# Altium footprint library PCB库.PcbLib: 36 footprints (part 2 of 3)
Each footprint in its own frame and in the unit in brackets; x right, y up, seen from the top. Pads: shape width x height; smd on the part's side, far side on the other; paste and mask are expansions set on the pad; w line width, h text height; cw(c..) or ccw(c..) is an arc to the next point about the centre after c.
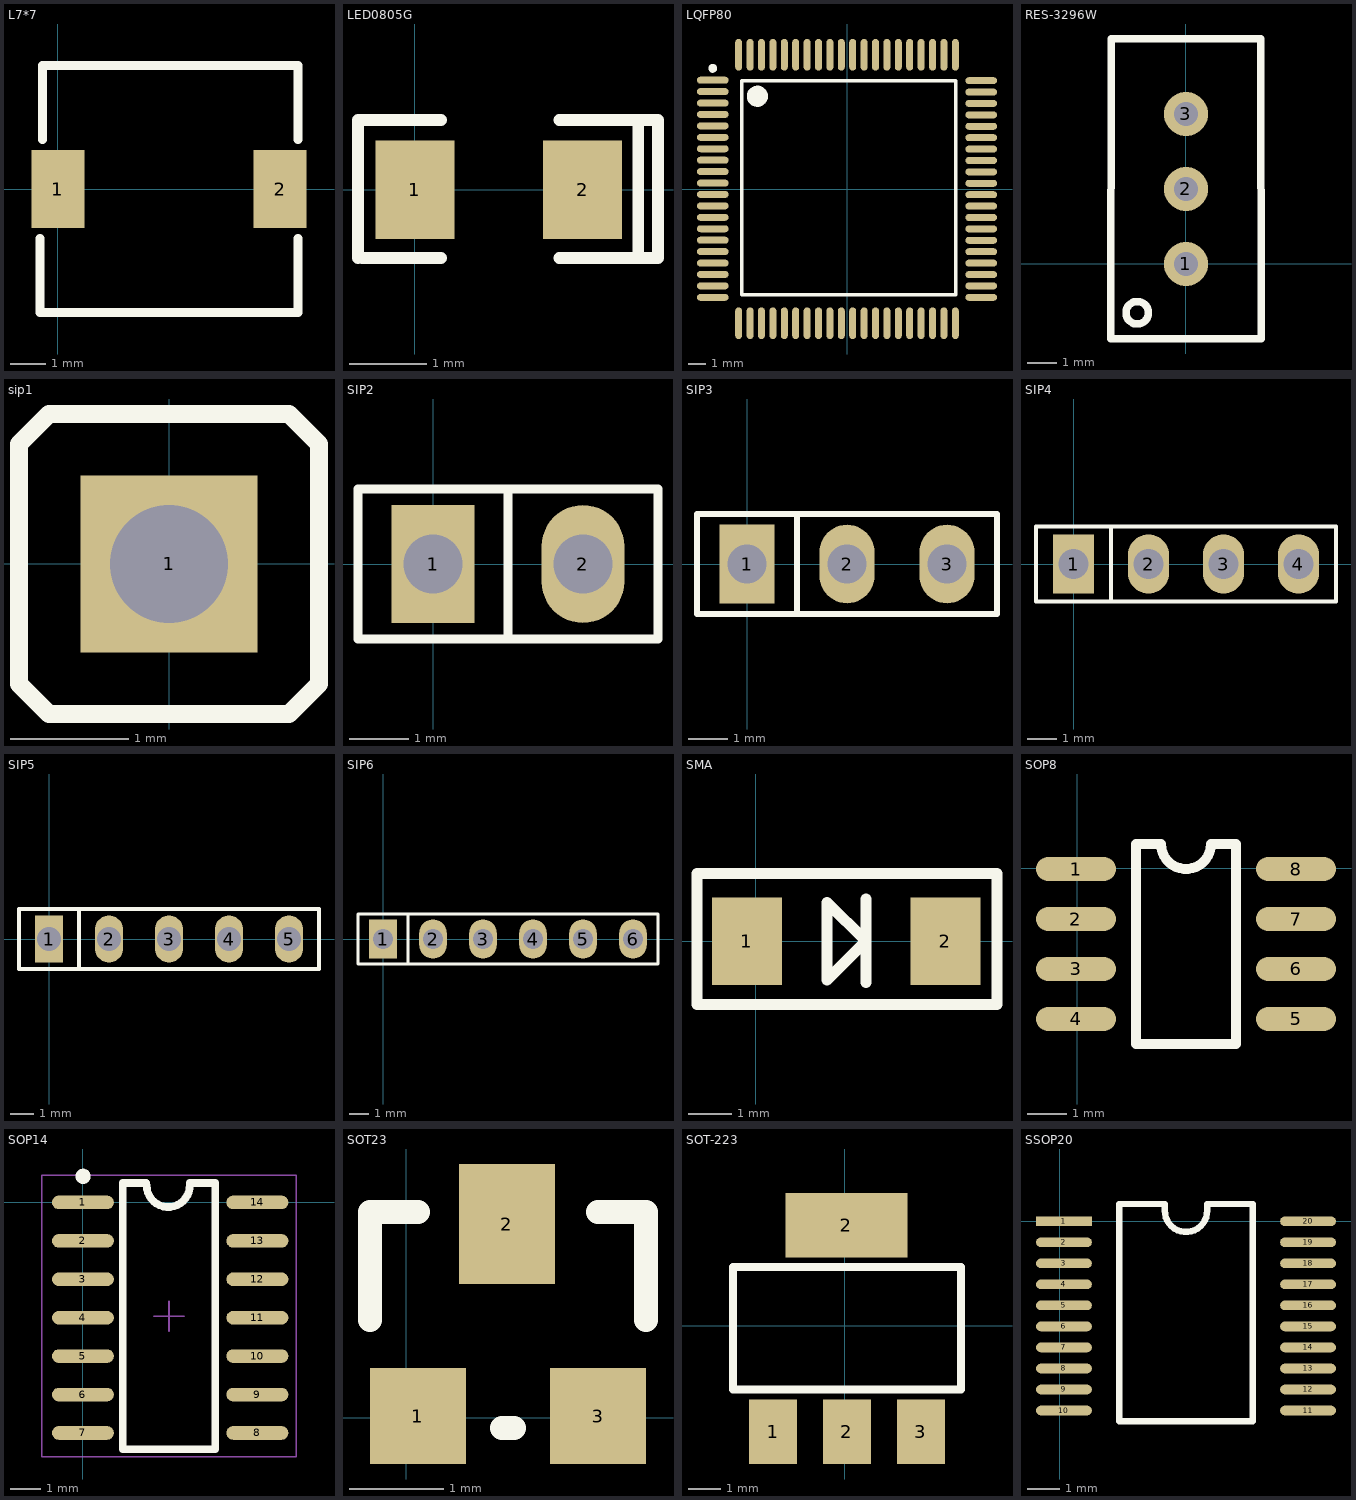
[diagram p1: the footprints below, top view; thin cyan lines are the x and y axes]

## L7*7 [mm]
pads (2):
  rect 1.5x2.2 smd: 1(0,0) 2(6.3,0)
Top Overlay:
  lines w0.254: -0.5,-1.397 -0.5,-3.5 6.8,-3.5 6.8,-1.397 ; -0.437,1.397 -0.437,3.5 6.8,3.5 6.8,1.397

## LED0805G [mil]
pads (2):
  rect 40x50 smd: 1(0,0) 2(85,0)
Top Overlay:
  lines w5.98: 113.15,-34.61 123.15,-34.61 ; 113.15,35.39 123.15,35.39
  lines w6: -28.86,-34.61 -28.86,35.39 13.15,35.39 ; -26.85,-34.61 13.15,-34.61 ; 73.15,-34.61 113.15,-34.61 113.15,35.39 73.15,35.39 ; 123.15,-34.61 123.15,35.39
3D body "User Library-User Library-led_0805 GRE.STEP": height 43.31, standoff 0, extent 3.39,-24.21 82.91,25

## LQFP80 [mm]
pads (80):
  oval 1.8x0.4 smd: 1(-7.65,6.202) 2(-7.65,5.551) 3(-7.65,4.899) 4(-7.65,4.248) 5(-7.65,3.596) 6(-7.65,2.945) 7(-7.65,2.294) 8(-7.65,1.642) 9(-7.65,0.991) 10(-7.65,0.339) 11(-7.65,-0.312) 12(-7.65,-0.964) 13(-7.65,-1.615) 14(-7.65,-2.266) 15(-7.65,-2.918) 16(-7.65,-3.569) 17(-7.65,-4.221) 18(-7.65,-4.872) 19(-7.65,-5.524) 20(-7.65,-6.175) 41(7.65,-6.175) 42(7.65,-5.525) 43(7.65,-4.875) 44(7.65,-4.225) 45(7.65,-3.575) 46(7.65,-2.925) 47(7.65,-2.275) 48(7.65,-1.625) 49(7.65,-0.975) 50(7.65,-0.325) 51(7.65,0.325) 52(7.65,0.975) 53(7.65,1.625) 54(7.65,2.275) 55(7.65,2.925) 56(7.65,3.575) 57(7.65,4.225) 58(7.65,4.875) 59(7.65,5.525) 60(7.65,6.175)
  oval 0.4x1.8 smd: 21(-6.175,-7.65) 22(-5.525,-7.65) 23(-4.875,-7.65) 24(-4.225,-7.65) 25(-3.575,-7.65) 26(-2.925,-7.65) 27(-2.275,-7.65) 28(-1.625,-7.65) 29(-0.975,-7.65) 30(-0.325,-7.65) 31(0.325,-7.65) 32(0.975,-7.65) 33(1.625,-7.65) 34(2.275,-7.65) 35(2.925,-7.65) 36(3.575,-7.65) 37(4.225,-7.65) 38(4.875,-7.65) 39(5.525,-7.65) 40(6.175,-7.65) 61(6.175,7.65) 62(5.525,7.65) 63(4.875,7.65) 64(4.225,7.65) 65(3.575,7.65) 66(2.925,7.65) 67(2.275,7.65) 68(1.625,7.65) 69(0.975,7.65) 70(0.325,7.65) 71(-0.325,7.65) 72(-0.975,7.65) 73(-1.625,7.65) 74(-2.275,7.65) 75(-2.925,7.65) 76(-3.575,7.65) 77(-4.225,7.65) 78(-4.875,7.65) 79(-5.525,7.65) 80(-6.175,7.65)
Top Overlay:
  circle w0.25: c-7.65,6.875 r0.125
  circle w0.6: c-5.11,5.286 r0.3
  lines w0.2: -5.999,-6.017 -5.999,6.175 6.193,6.175 6.193,-6.017 -5.999,-6.017

## RES-3296W [mm]
pads (3):
  round 1.5 hole 0.8: 1(0,0) 2(0,2.54) 3(0,5.08)
Top Overlay:
  circle w0.254: c-1.651,-1.651 r0.381
  lines w0.254: -2.54,-2.54 -2.54,7.62 2.54,7.62 2.54,-2.54 -2.54,-2.54

## sip1 [mm]
pads (1):
  rect 1.5x1.5 hole 1: 1(0,0)
Top Overlay:
  lines w0.15: -1.27,-1.016 -1.016,-1.27 1.016,-1.27 1.27,-1.016 1.27,1.016 1.016,1.27 -1.016,1.27 -1.27,1.016 -1.27,-1.016

## SIP2 [mm]
pads (2):
  rect 1.4x2 hole 1: 1(0,0)
  oval 1.4x2 hole 1: 2(2.54,0)
Top Overlay:
  lines w0.15: 1.27,-1.27 1.27,1.27 ; -1.27,-1.27 3.81,-1.27 3.81,1.27 -1.27,1.27 -1.27,-1.27
3D body "User Library-PLD-2.step": height 8.54, standoff -3, extent -1.27,-1.27 3.81,1.27
3D body "User Library-Jumper.step": height 16.41, standoff 2.59, extent -1.23,-1.2 3.77,1.2

## SIP3 [mm]
pads (3):
  rect 1.4x2 hole 1: 1(0,0)
  oval 1.4x2 hole 1: 2(2.54,0) 3(5.08,0)
Top Overlay:
  lines w0.15: 1.27,-1.27 1.27,1.27 ; -1.27,-1.27 -1.27,1.27 6.35,1.27 6.35,-1.27 -1.27,-1.27
3D body "User Library-CON-072.step": height 16.31, standoff -2.5, extent -1.21,-1.25 6.29,1.25

## SIP4 [mm]
pads (4):
  rect 1.4x2 hole 1: 1(0,0)
  oval 1.4x2 hole 1: 2(2.54,0) 3(5.08,0) 4(7.62,0)
Top Overlay:
  lines w0.15: 1.27,-1.27 1.27,1.27 ; -1.27,-1.27 8.89,-1.27 8.89,1.27 -1.27,1.27 -1.27,-1.27
3D body "Samtec-4.step": height 8.89, standoff 0, extent -1.27,-1.27 8.89,1.27

## SIP5 [mm]
pads (5):
  rect 1.2x2 hole 1: 1(0,0)
  oval 1.2x2 hole 1: 2(2.54,0) 3(5.08,0) 4(7.62,0) 5(10.16,0)
Top Overlay:
  lines w0.15: 1.27,-1.27 1.27,1.27 ; -1.27,-1.27 -1.27,1.27 11.43,1.27 11.43,-1.27 -1.27,-1.27
3D body "Samtec-5.step": height 8.89, standoff -2.03, extent -1.27,-1.27 11.43,1.27

## SIP6 [mm]
pads (6):
  rect 1.4x2 hole 1: 1(0,0)
  oval 1.4x2 hole 1: 2(2.54,0) 3(5.08,0) 4(7.62,0) 5(10.16,0) 6(12.7,0)
Top Overlay:
  lines w0.15: 1.27,-1.27 1.27,1.27 ; -1.27,-1.27 -1.27,1.27 13.97,1.27 13.97,-1.27 -1.27,-1.27
3D body "Samtec-6.step": height 8.89, standoff -2.03, extent -1.27,-1.27 13.97,1.27

## SMA [mil] "DO-214AC(2010)"
pads (2):
  rect 63x78.74 smd: 1(-8,0) 2(170.56,0)
Top Overlay:
  lines w10: 99,-37 99,38 ; -53,-57 217,-57 217,61 -53,61 -53,-57 ; 64,-35 99,0 64,35 64,-35
3D body "DO-214AC.STEP": height 94.49, standoff 0, extent -7.55,-52.15 173.55,54.15

## SOP8 [mil]
pads (8):
  oval 80x24 smd: 1(-1,-1) 2(-1,-51) 3(-1,-101) 4(-1,-151) 5(219,-151) 6(219,-101) 7(219,-51) 8(219,-1)
Top Overlay:
  lines w10: 59,-176 159,-176 159,24 134,24 cw(c109,24) 84,24 59,24 59,-176
3D body "SOP8.STEP": height 62.99, standoff 0, extent -8.7,-173.62 229.17,24.02

## SOP14 [mm] "LM339"
height 1.8
pads (14):
  oval 2.05x0.45 smd mask+0.1: 1(0,0) 2(0,-1.27) 3(0,-2.54) 4(0,-3.81) 5(0,-5.08) 6(0,-6.35) 7(0,-7.62) 8(5.766,-7.62) 9(5.766,-6.35) 10(5.766,-5.08) 11(5.766,-3.81) 12(5.766,-2.54) 13(5.766,-1.27) 14(5.766,0)
Top Overlay:
  circle w0.25: c0.002,0.864 r0.125
  lines w0.254: 2.082,0.641 1.32,0.641 1.32,-8.159 4.37,-8.159 4.37,0.641 3.531,0.641 ; 2.108,0.559 ccw(c2.819,0.559) 3.53,0.583
Mechanical 15:
  lines w0.051: 2.345,-3.759 3.345,-3.759 ; 2.845,-4.259 2.845,-3.259 ; -1.355,-8.409 7.045,-8.409 7.045,0.891 -1.355,0.891 -1.355,-8.409
3D body "SOP14.STEP": height 1.61, standoff 0, extent -0.306,-8.16 5.894,0.54

## SOT23 [mil]
pads (3):
  rect 40x40 smd: 1(4.88,0.63) 3(79.88,0.63)
  rect 40x50 smd: 2(41.88,80.63)
Top Overlay:
  lines w10: -15.12,40.63 -15.12,85.63 4.88,85.63 ; 39.88,-4.37 44.88,-4.37 ; 79.88,85.63 99.88,85.63 99.88,40.63
3D body "SOT-23-3.STEP": height 47.24, standoff 0, extent -14.87,-11.02 99.3,99.22

## SOT-223 [mil]
pads (4):
  rect 59x79 smd: 1(-88,-130) 2(2.55,-130) 3(93.1,-130)
  rect 150x79 smd: 2(1.88,123.54)
Top Overlay:
  lines w10: -137.45,-78 142.55,-78 142.55,72 -137.45,72 -137.45,-78
3D body "SOT-223_MP04A.STEP": height 66.93, standoff 0, extent -126.41,-138.72 129.5,135.3

## SSOP20 [mm]
pads (20):
  rect 1.727x0.3 smd: 1(0.127,0)
  oval 1.727x0.3 smd: 2(0.127,-0.65) 3(0.127,-1.3) 4(0.127,-1.95) 5(0.127,-2.6) 6(0.127,-3.25) 7(0.127,-3.9) 8(0.127,-4.55) 9(0.127,-5.2) 10(0.127,-5.85) 11(7.673,-5.85) 12(7.673,-5.2) 13(7.673,-4.55) 14(7.673,-3.9) 15(7.673,-3.25) 16(7.673,-2.6) 17(7.673,-1.95) 18(7.673,-1.3) 19(7.673,-0.65) 20(7.673,0)
Top Overlay:
  lines w0.2: 1.835,-6.175 1.835,0.533 3.245,0.533 3.245,0.325 ccw(c3.9,0.325) 4.555,0.325 4.555,0.533 5.965,0.533 5.965,-6.175 1.835,-6.175
3D body "SSOP-20.STEP": height 1.79, standoff -0.05, extent -0.013,-6.52 7.887,0.78